# EAGLE library part LT3652 (library KylePile)
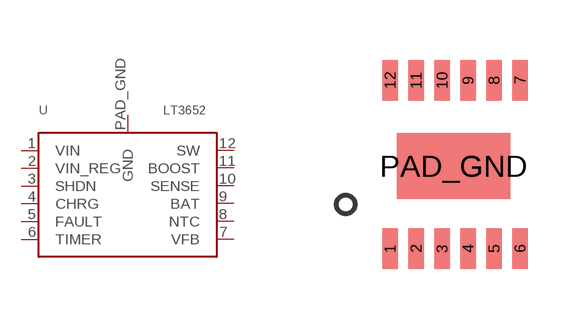
[diagram p23: symbol with the pads of TSSOP12; footprint TSSOP12]

Designator prefix U

## LT3652  [TSSOP12]
1  VIN
2  VIN_REG
3  SHDN
4  CHRG
5  FAULT
6  TIMER
7  VFB
8  NTC
9  BAT
10  SENSE
11  BOOST
12  SW
PAD_GND  GND

## Footprint TSSOP12 (pad centres in mm)
12 lead MSOP, exposed die pad KRP untested 3.4.16
smd 0.396 x 1.016: 1 0,0; 2 0.65,0; 3 1.3,0; 4 1.951,0; 5 2.601,0; 6 3.251,0; 7 3.251,4.216; 8 2.601,4.216; 9 1.951,4.216; 10 1.3,4.216; 11 0.65,4.216; 12 0,4.216
smd 2.845 x 1.651: PAD_GND 1.587,2.064